# EAGLE library part SMF05C (library electronic-labs)
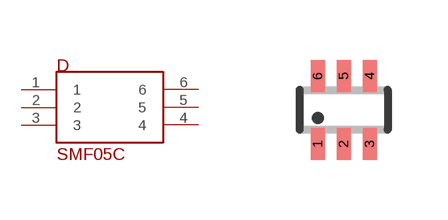
[diagram p8: symbol with the pads of SC70-6L; footprint SC70-6L]

Designator prefix D

## SMF05C  [SC70-6L]
1  1
2  2
3  3
4  4
5  5
6  6

## Footprint SC70-6L (pad centres in mm)
SC-70 Package
smd 0.35 x 0.8: 1 -0.65,-0.85; 2 0,-0.85; 3 0.65,-0.85; 4 0.65,0.85; 5 0,0.85; 6 -0.65,0.85